# EAGLE library part PC104_PLUS (library con-pc104)
PC/104-Plus 16 bit
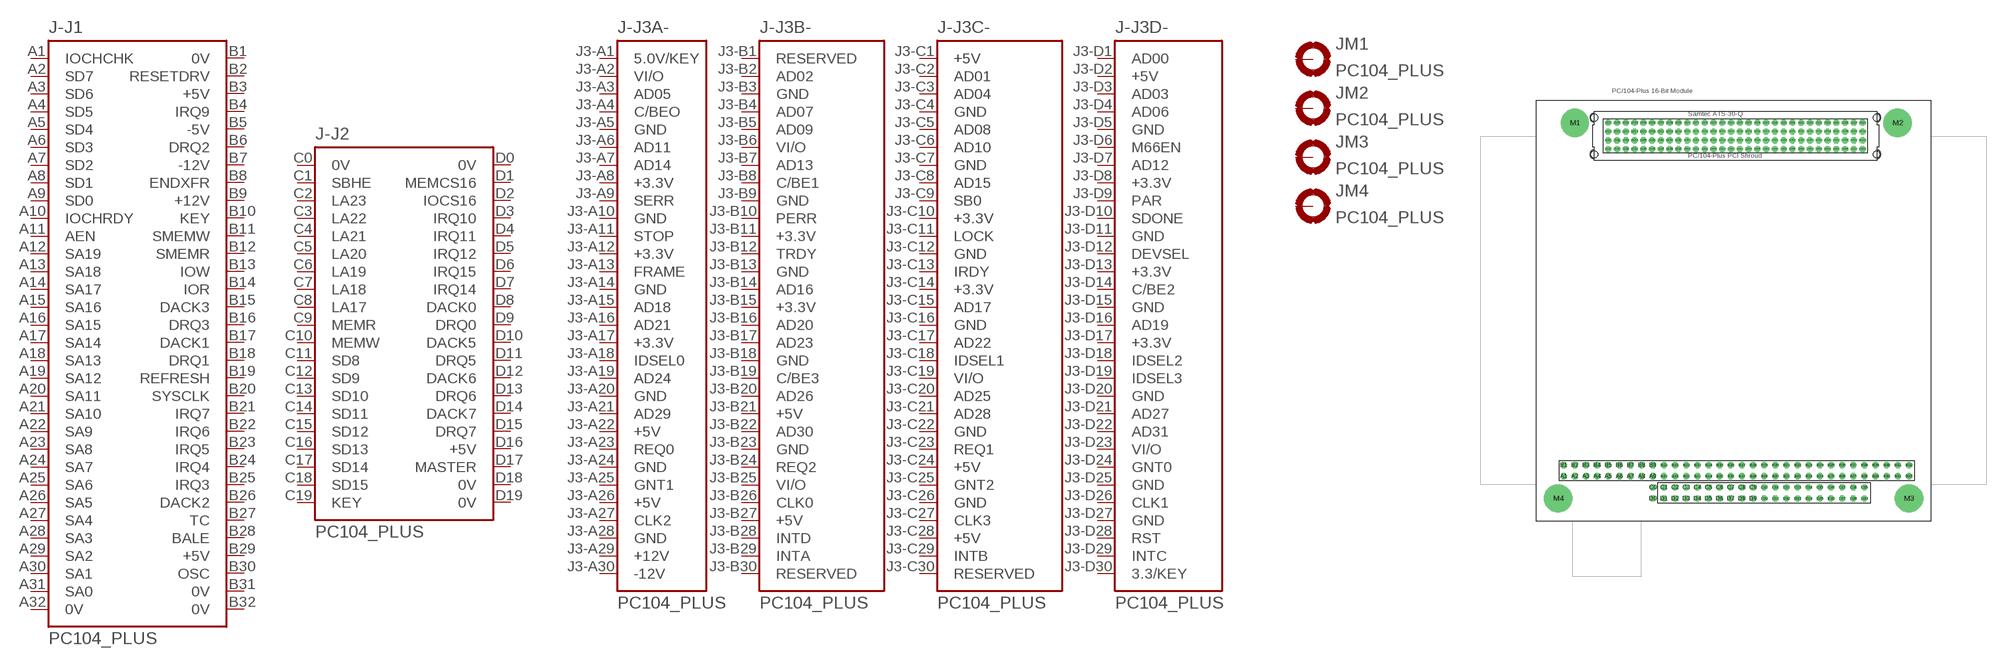
[diagram p1: symbol with the pads of PC104-PLUS; footprint PC104-PLUS]

Designator prefix J; gates -J1=PC104-J1 -J2=PC104-J2 -J3A-=PC104J3A -J3B-=PC104J3B -J3C-=PC104J3C -J3D-=PC104J3D M1=MPAD M2=MPAD M3=MPAD M4=MPAD

## PC104_PLUS  [PC104-PLUS]
A1  -J1:IOCHCHK  pas
A2  -J1:SD7  pas
A3  -J1:SD6  pas
A4  -J1:SD5  pas
A5  -J1:SD4  pas
A6  -J1:SD3  pas
A7  -J1:SD2  pas
A8  -J1:SD1  pas
A9  -J1:SD0  pas
A10  -J1:IOCHRDY  pas
A11  -J1:AEN  pas
A12  -J1:SA19  pas
A13  -J1:SA18  pas
A14  -J1:SA17  pas
A15  -J1:SA16  pas
A16  -J1:SA15  pas
A17  -J1:SA14  pas
A18  -J1:SA13  pas
A19  -J1:SA12  pas
A20  -J1:SA11  pas
A21  -J1:SA10  pas
A22  -J1:SA9  pas
A23  -J1:SA8  pas
A24  -J1:SA7  pas
A25  -J1:SA6  pas
A26  -J1:SA5  pas
A27  -J1:SA4  pas
A28  -J1:SA3  pas
A29  -J1:SA2  pas
A30  -J1:SA1  pas
A31  -J1:SA0  pas
A32  -J1:0V  pas
B1  -J1:0V  pas
B2  -J1:RESETDRV  pas
B3  -J1:+5V  pas
B4  -J1:IRQ9  pas
B5  -J1:-5V  pas
B6  -J1:DRQ2  pas
B7  -J1:-12V  pas
B8  -J1:ENDXFR  pas
B9  -J1:+12V  pas
B10  -J1:KEY  pas
B11  -J1:SMEMW  pas
B12  -J1:SMEMR  pas
B13  -J1:IOW  pas
B14  -J1:IOR  pas
B15  -J1:DACK3  pas
B16  -J1:DRQ3  pas
B17  -J1:DACK1  pas
B18  -J1:DRQ1  pas
B19  -J1:REFRESH  pas
B20  -J1:SYSCLK  pas
B21  -J1:IRQ7  pas
B22  -J1:IRQ6  pas
B23  -J1:IRQ5  pas
B24  -J1:IRQ4  pas
B25  -J1:IRQ3  pas
B26  -J1:DACK2  pas
B27  -J1:TC  pas
B28  -J1:BALE  pas
B29  -J1:+5V  pas
B30  -J1:OSC  pas
B31  -J1:0V  pas
B32  -J1:0V  pas
C0  -J2:0V  pas
C1  -J2:SBHE  pas
C2  -J2:LA23  pas
C3  -J2:LA22  pas
C4  -J2:LA21  pas
C5  -J2:LA20  pas
C6  -J2:LA19  pas
C7  -J2:LA18  pas
C8  -J2:LA17  pas
C9  -J2:MEMR  pas
C10  -J2:MEMW  pas
C11  -J2:SD8  pas
C12  -J2:SD9  pas
C13  -J2:SD10  pas
C14  -J2:SD11  pas
C15  -J2:SD12  pas
C16  -J2:SD13  pas
C17  -J2:SD14  pas
C18  -J2:SD15  pas
C19  -J2:KEY  pas
D0  -J2:0V  pas
D1  -J2:MEMCS16  pas
D2  -J2:IOCS16  pas
D3  -J2:IRQ10  pas
D4  -J2:IRQ11  pas
D5  -J2:IRQ12  pas
D6  -J2:IRQ15  pas
D7  -J2:IRQ14  pas
D8  -J2:DACK0  pas
D9  -J2:DRQ0  pas
D10  -J2:DACK5  pas
D11  -J2:DRQ5  pas
D12  -J2:DACK6  pas
D13  -J2:DRQ6  pas
D14  -J2:DACK7  pas
D15  -J2:DRQ7  pas
D16  -J2:+5V  pas
D17  -J2:MASTER  pas
D18  -J2:0V  pas
D19  -J2:0V  pas
J3-A1  -J3A-:5.0V/KEY  pas
J3-A2  -J3A-:VI/O  pas
J3-A3  -J3A-:AD05  pas
J3-A4  -J3A-:C/BEO  pas
J3-A5  -J3A-:GND  pas
J3-A6  -J3A-:AD11  pas
J3-A7  -J3A-:AD14  pas
J3-A8  -J3A-:+3.3V  pas
J3-A9  -J3A-:SERR  pas
J3-A10  -J3A-:GND  pas
J3-A11  -J3A-:STOP  pas
J3-A12  -J3A-:+3.3V  pas
J3-A13  -J3A-:FRAME  pas
J3-A14  -J3A-:GND  pas
J3-A15  -J3A-:AD18  pas
J3-A16  -J3A-:AD21  pas
J3-A17  -J3A-:+3.3V  pas
J3-A18  -J3A-:IDSEL0  pas
J3-A19  -J3A-:AD24  pas
J3-A20  -J3A-:GND  pas
J3-A21  -J3A-:AD29  pas
J3-A22  -J3A-:+5V  pas
J3-A23  -J3A-:REQ0  pas
J3-A24  -J3A-:GND  pas
J3-A25  -J3A-:GNT1  pas
J3-A26  -J3A-:+5V  pas
J3-A27  -J3A-:CLK2  pas
J3-A28  -J3A-:GND  pas
J3-A29  -J3A-:+12V  pas
J3-A30  -J3A-:-12V  pas
J3-B1  -J3B-:RESERVED  pas
J3-B2  -J3B-:AD02  pas
J3-B3  -J3B-:GND  pas
J3-B4  -J3B-:AD07  pas
J3-B5  -J3B-:AD09  pas
J3-B6  -J3B-:VI/O  pas
J3-B7  -J3B-:AD13  pas
J3-B8  -J3B-:C/BE1  pas
J3-B9  -J3B-:GND  pas
J3-B10  -J3B-:PERR  pas
J3-B11  -J3B-:+3.3V  pas
J3-B12  -J3B-:TRDY  pas
J3-B13  -J3B-:GND  pas
J3-B14  -J3B-:AD16  pas
J3-B15  -J3B-:+3.3V  pas
J3-B16  -J3B-:AD20  pas
J3-B17  -J3B-:AD23  pas
J3-B18  -J3B-:GND  pas
J3-B19  -J3B-:C/BE3  pas
J3-B20  -J3B-:AD26  pas
J3-B21  -J3B-:+5V  pas
J3-B22  -J3B-:AD30  pas
J3-B23  -J3B-:GND  pas
J3-B24  -J3B-:REQ2  pas
J3-B25  -J3B-:VI/O  pas
J3-B26  -J3B-:CLK0  pas
J3-B27  -J3B-:+5V  pas
J3-B28  -J3B-:INTD  pas
J3-B29  -J3B-:INTA  pas
J3-B30  -J3B-:RESERVED  pas
J3-C1  -J3C-:+5V  pas
J3-C2  -J3C-:AD01  pas
J3-C3  -J3C-:AD04  pas
J3-C4  -J3C-:GND  pas
J3-C5  -J3C-:AD08  pas
J3-C6  -J3C-:AD10  pas
J3-C7  -J3C-:GND  pas
J3-C8  -J3C-:AD15  pas
J3-C9  -J3C-:SB0  pas
J3-C10  -J3C-:+3.3V  pas
J3-C11  -J3C-:LOCK  pas
J3-C12  -J3C-:GND  pas
J3-C13  -J3C-:IRDY  pas
J3-C14  -J3C-:+3.3V  pas
J3-C15  -J3C-:AD17  pas
J3-C16  -J3C-:GND  pas
J3-C17  -J3C-:AD22  pas
J3-C18  -J3C-:IDSEL1  pas
J3-C19  -J3C-:VI/O  pas
J3-C20  -J3C-:AD25  pas
J3-C21  -J3C-:AD28  pas
J3-C22  -J3C-:GND  pas
J3-C23  -J3C-:REQ1  pas
J3-C24  -J3C-:+5V  pas
J3-C25  -J3C-:GNT2  pas
J3-C26  -J3C-:GND  pas
J3-C27  -J3C-:CLK3  pas
J3-C28  -J3C-:+5V  pas
J3-C29  -J3C-:INTB  pas
J3-C30  -J3C-:RESERVED  pas
J3-D1  -J3D-:AD00  pas
J3-D2  -J3D-:+5V  pas
J3-D3  -J3D-:AD03  pas
J3-D4  -J3D-:AD06  pas
J3-D5  -J3D-:GND  pas
J3-D6  -J3D-:M66EN  pas
J3-D7  -J3D-:AD12  pas
J3-D8  -J3D-:+3.3V  pas
J3-D9  -J3D-:PAR  pas
J3-D10  -J3D-:SDONE  pas
J3-D11  -J3D-:GND  pas
J3-D12  -J3D-:DEVSEL  pas
J3-D13  -J3D-:+3.3V  pas
J3-D14  -J3D-:C/BE2  pas
J3-D15  -J3D-:GND  pas
J3-D16  -J3D-:AD19  pas
J3-D17  -J3D-:+3.3V  pas
J3-D18  -J3D-:IDSEL2  pas
J3-D19  -J3D-:IDSEL3  pas
J3-D20  -J3D-:GND  pas
J3-D21  -J3D-:AD27  pas
J3-D22  -J3D-:AD31  pas
J3-D23  -J3D-:VI/O  pas
J3-D24  -J3D-:GNT0  pas
J3-D25  -J3D-:GND  pas
J3-D26  -J3D-:CLK1  pas
J3-D27  -J3D-:GND  pas
J3-D28  -J3D-:RST  pas
J3-D29  -J3D-:INTC  pas
J3-D30  -J3D-:3.3/KEY  pas
M1  M1:MPAD  pas
M2  M2:MPAD  pas
M3  M3:MPAD  pas
M4  M4:MPAD  pas

## Footprint PC104-PLUS (pad centres in mm)
PC/104-Plus 16 bit
drill 0.9 octagon: A1 6.35,10.16; A2 8.89,10.16; A3 11.43,10.16; A4 13.97,10.16; A5 16.51,10.16; A6 19.05,10.16; A7 21.59,10.16; A8 24.13,10.16; A9 26.67,10.16; A10 29.21,10.16; A11 31.75,10.16; A12 34.29,10.16; A13 36.83,10.16; A14 39.37,10.16; A15 41.91,10.16; A16 44.45,10.16; A17 46.99,10.16; A18 49.53,10.16; A19 52.07,10.16; A20 54.61,10.16; A21 57.15,10.16; A22 59.69,10.16; A23 62.23,10.16; A24 64.77,10.16; A25 67.31,10.16; A26 69.85,10.16; A27 72.39,10.16; A28 74.93,10.16; A29 77.47,10.16; A30 80.01,10.16; A31 82.55,10.16; A32 85.09,10.16; B1 6.35,12.7; B2 8.89,12.7; B3 11.43,12.7; B4 13.97,12.7; B5 16.51,12.7; B6 19.05,12.7; B7 21.59,12.7; B8 24.13,12.7; B9 26.67,12.7; B10 29.21,12.7; B11 31.75,12.7; B12 34.29,12.7; B13 36.83,12.7; B14 39.37,12.7; B15 41.91,12.7; B16 44.45,12.7; B17 46.99,12.7; B18 49.53,12.7; B19 52.07,12.7; B20 54.61,12.7; B21 57.15,12.7; B22 59.69,12.7; B23 62.23,12.7; B24 64.77,12.7; B25 67.31,12.7; B26 69.85,12.7; B27 72.39,12.7; B28 74.93,12.7; B29 77.47,12.7; B30 80.01,12.7; B31 82.55,12.7; B32 85.09,12.7; C0 26.67,7.62; C1 29.21,7.62; C2 31.75,7.62; C3 34.29,7.62; C4 36.83,7.62; C5 39.37,7.62; C6 41.91,7.62; C7 44.45,7.62; C8 46.99,7.62; C9 49.53,7.62; C10 52.07,7.62; C11 54.61,7.62; C12 57.15,7.62; C13 59.69,7.62; C14 62.23,7.62; C15 64.77,7.62; C16 67.31,7.62; C17 69.85,7.62; C18 72.39,7.62; C19 74.93,7.62; D0 26.67,5.08; D1 29.21,5.08; D2 31.75,5.08; D3 34.29,5.08; D4 36.83,5.08; D5 39.37,5.08; D6 41.91,5.08; D7 44.45,5.08; D8 46.99,5.08; D9 49.53,5.08; D10 52.07,5.08; D11 54.61,5.08; D12 57.15,5.08; D13 59.69,5.08; D14 62.23,5.08; D15 64.77,5.08; D16 67.31,5.08; D17 69.85,5.08; D18 72.39,5.08; D19 74.93,5.08; J3-A1 16.51,84.805; J3-A2 18.51,84.805; J3-A3 20.51,84.805; J3-A4 22.51,84.805; J3-A5 24.51,84.805; J3-A6 26.51,84.805; J3-A7 28.51,84.805; J3-A8 30.51,84.805; J3-A9 32.51,84.805; J3-A10 34.51,84.805; J3-A11 36.51,84.805; J3-A12 38.51,84.805; J3-A13 40.51,84.805; J3-A14 42.51,84.805; J3-A15 44.51,84.805; J3-A16 46.51,84.805; J3-A17 48.51,84.805; J3-A18 50.51,84.805; J3-A19 52.51,84.805; J3-A20 54.51,84.805; J3-A21 56.51,84.805; J3-A22 58.51,84.805; J3-A23 60.51,84.805; J3-A24 62.51,84.805; J3-A25 64.51,84.805; J3-A26 66.51,84.805; J3-A27 68.51,84.805; J3-A28 70.51,84.805; J3-A29 72.51,84.805; J3-A30 74.51,84.805; J3-B1 16.51,86.805; J3-B2 18.51,86.805; J3-B3 20.51,86.805; J3-B4 22.51,86.805; J3-B5 24.51,86.805; J3-B6 26.51,86.805; J3-B7 28.51,86.805; J3-B8 30.51,86.805; J3-B9 32.51,86.805; J3-B10 34.51,86.805; J3-B11 36.51,86.805; J3-B12 38.51,86.805; J3-B13 40.51,86.805; J3-B14 42.51,86.805; J3-B15 44.51,86.805; J3-B16 46.51,86.805; J3-B17 48.51,86.805; J3-B18 50.51,86.805; J3-B19 52.51,86.805; J3-B20 54.51,86.805; J3-B21 56.51,86.805; J3-B22 58.51,86.805; J3-B23 60.51,86.805; J3-B24 62.51,86.805; J3-B25 64.51,86.805; J3-B26 66.51,86.805; J3-B27 68.51,86.805; J3-B28 70.51,86.805; J3-B29 72.51,86.805; J3-B30 74.51,86.805; J3-C1 16.51,88.805; J3-C2 18.51,88.805; J3-C3 20.51,88.805; J3-C4 22.51,88.805; J3-C5 24.51,88.805; J3-C6 26.51,88.805; J3-C7 28.51,88.805; J3-C8 30.51,88.805; J3-C9 32.51,88.805; J3-C10 34.51,88.805; J3-C11 36.51,88.805; J3-C12 38.51,88.805; J3-C13 40.51,88.805; J3-C14 42.51,88.805; J3-C15 44.51,88.805; J3-C16 46.51,88.805; J3-C17 48.51,88.805; J3-C18 50.51,88.805; J3-C19 52.51,88.805; J3-C20 54.51,88.805; J3-C21 56.51,88.805; J3-C22 58.51,88.805; J3-C23 60.51,88.805; J3-C24 62.51,88.805; J3-C25 64.51,88.805; J3-C26 66.51,88.805; J3-C27 68.51,88.805; J3-C28 70.51,88.805; J3-C29 72.51,88.805; J3-C30 74.51,88.805; J3-D1 16.51,90.805; J3-D2 18.51,90.805; J3-D3 20.51,90.805; J3-D4 22.51,90.805; J3-D5 24.51,90.805; J3-D6 26.51,90.805; J3-D7 28.51,90.805; J3-D8 30.51,90.805; J3-D9 32.51,90.805; J3-D10 34.51,90.805; J3-D11 36.51,90.805; J3-D12 38.51,90.805; J3-D13 40.51,90.805; J3-D14 42.51,90.805; J3-D15 44.51,90.805; J3-D16 46.51,90.805; J3-D17 48.51,90.805; J3-D18 50.51,90.805; J3-D19 52.51,90.805; J3-D20 54.51,90.805; J3-D21 56.51,90.805; J3-D22 58.51,90.805; J3-D23 60.51,90.805; J3-D24 62.51,90.805; J3-D25 64.51,90.805; J3-D26 66.51,90.805; J3-D27 68.51,90.805; J3-D28 70.51,90.805; J3-D29 72.51,90.805; J3-D30 74.51,90.805
drill 3.175 pad 6.452: M1 8.9,90.8; M2 82.5,90.8; M3 85.1,5.1; M4 5.1,5.1